# EAGLE library part ETB43164* (library mylib)
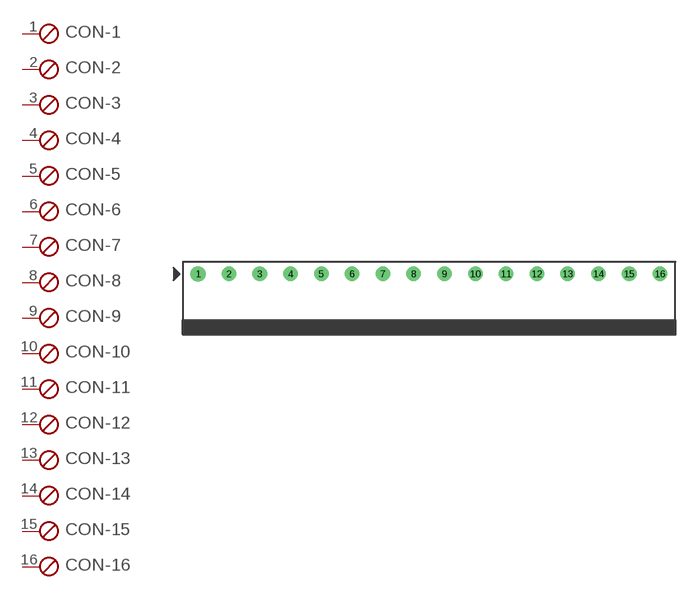
[diagram p122: symbol with the pads of ETB43164; footprint ETB43164]

Designator prefix CON; gates -1=TESTPIN-1 -2=TESTPIN-1 -3=TESTPIN-1 -4=TESTPIN-1 -5=TESTPIN-1 -6=TESTPIN-1 -7=TESTPIN-1 -8=TESTPIN-1 -9=TESTPIN-1 -10=TESTPIN-1 -11=TESTPIN-1 -12=TESTPIN-1 -13=TESTPIN-1 -14=TESTPIN-1 -15=TESTPIN-1 -16=TESTPIN-1

## ETB43164B (AKIZUKI: P-11595), ETB43164G (AKIZUKI: P-11602)  [ETB43164]
1  -1:1  pas
2  -2:1  pas
3  -3:1  pas
4  -4:1  pas
5  -5:1  pas
6  -6:1  pas
7  -7:1  pas
8  -8:1  pas
9  -9:1  pas
10  -10:1  pas
11  -11:1  pas
12  -12:1  pas
13  -13:1  pas
14  -14:1  pas
15  -15:1  pas
16  -16:1  pas

## Footprint ETB43164 (pad centres in mm)
drill 1.6 pad 2.54: 1 -38.1,0
drill 1.6: 2 -33.02,0; 3 -27.94,0; 4 -22.86,0; 5 -17.78,0; 6 -12.7,0; 7 -7.62,0; 8 -2.54,0; 9 2.54,0; 10 7.62,0; 11 12.7,0; 12 17.78,0; 13 22.86,0; 14 27.94,0; 15 33.02,0; 16 38.1,0